# EAGLE library part TLE2037 (library 1A-meinLib)
Low-Noise High Speed Precision Operational Amplifier, 15MHz, 25uV, Texas Instruments
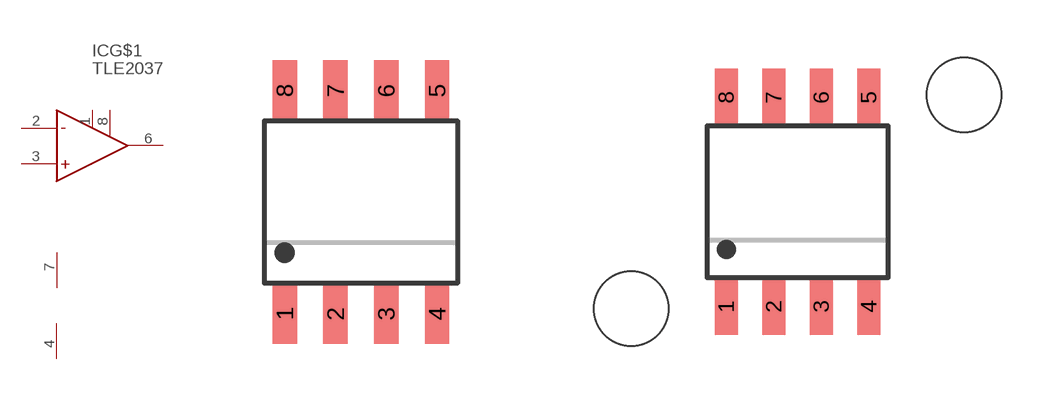
[diagram p319: symbol with the pads of SOIC-8; footprints SOIC-8, SOIC-8_TESTSOCKEL]

Designator prefix IC; gates G$1=TLE2037 G$2=PWR+-

## TLE2037  [SOIC-8]
1  G$1:OF1  pas
2  G$1:-IN  in
3  G$1:+IN  in
4  G$2:V-  pwr
6  G$1:OUT  out
7  G$2:V+  pwr
8  G$1:OF2  pas

## TLE2037TESTSOCKEL  [SOIC-8_TESTSOCKEL]
Pads as for SOIC-8

## Footprint SOIC-8 (pad centres in mm)
smd 0.61 x 1.524: 1 -1.27,-2.794; 2 0,-2.794; 3 1.27,-2.794; 4 2.54,-2.794; 5 2.54,2.794; 6 1.27,2.794; 7 0,2.794; 8 -1.27,2.794

## Footprint SOIC-8_TESTSOCKEL (pad centres in mm)
smd 0.61 x 1.524: 1 -1.905,-2.794; 2 -0.635,-2.794; 3 0.635,-2.794; 4 1.905,-2.794; 5 1.905,2.794; 6 0.635,2.794; 7 -0.635,2.794; 8 -1.905,2.794
hole 2 at 4.445,2.857
hole 2 at -4.445,-2.857